# EAGLE library part L3GD20H (library Sensors)
MEMS motion sensor: three-axis digital output gyroscope. Wide supply voltage, 2.2 V to 3.6 V. Low voltage compatible IOs, 1.8 V. Datasheet <http://www.st.com/st-web-ui/static/active/en/resource/technical/document/datasheet/DM00060659.pdf>
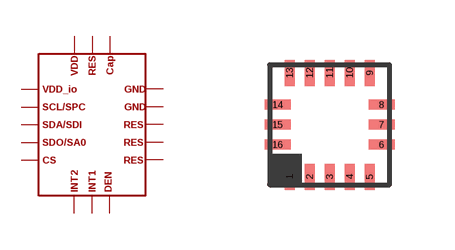
[diagram p1: symbol with the pads of LGA_3X3_16; footprint LGA_3X3_16]

Designator prefix GYRO

## L3GD20H  [LGA_3X3_16]
1  P$1
2  P$2
3  P$3
4  P$4
5  P$5
6  P$6
7  P$7
8  P$8
9  P$9
10  P$10
11  P$11
12  P$12
13  P$13
14  P$14
15  P$15
16  P$16

## Footprint LGA_3X3_16 (pad centres in mm)
smd 0.25 x 0.65: 1 -1,-1.35; 2 -0.5,-1.35; 3 0,-1.35; 4 0.5,-1.35; 5 1,-1.35; 9 1,1.25; 10 0.5,1.25; 11 0,1.25; 12 -0.5,1.25; 13 -1,1.25
smd 0.65 x 0.25: 6 1.3,-0.545; 7 1.3,-0.045; 8 1.3,0.455; 14 -1.3,0.455; 15 -1.3,-0.045; 16 -1.3,-0.545